# EAGLE library part ARDUINO-MINI-PRO (library custom)
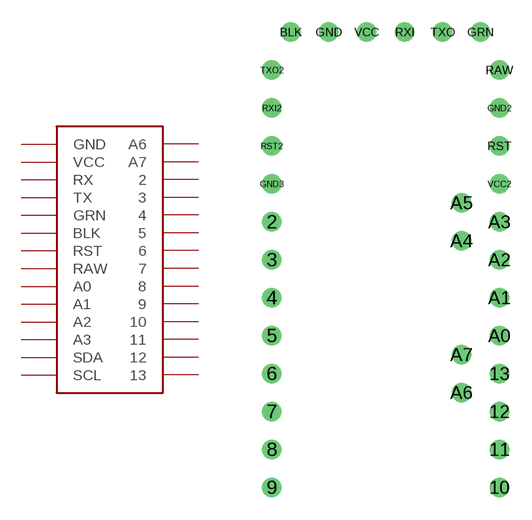
[diagram p10: symbol with the pads of ARDUINO-MINI-PRO; footprint ARDUINO-MINI-PRO]

Designator prefix -

## ARDUINO-MINI-PRO  [ARDUINO-MINI-PRO]
2  2
3  3
4  4
5  5
6  6
7  7
8  8
9  9
10  10
11  11
12  12
13  13
A0  A0
A1  A1
A2  A2
A3  A3
A4  SDA
A5  SCL
A6  A6
A7  A7
BLK  BLK
GND  GND
GRN  GRN
RAW  RAW
RST  RST
RXI  RX
TXO  TX
VCC  VCC

## Footprint ARDUINO-MINI-PRO (pad centres in mm)
drill 0.8: 2 -7.62,2.54; 3 -7.62,0; 4 -7.62,-2.54; 5 -7.62,-5.08; 6 -7.62,-7.62; 7 -7.62,-10.16; 8 -7.62,-12.7; 9 -7.62,-15.24; 10 7.62,-15.24; 11 7.62,-12.7; 12 7.62,-10.16; 13 7.62,-7.62; A0 7.62,-5.08; A1 7.62,-2.54; A2 7.62,0; A3 7.62,2.54; A4 5.08,1.27; A5 5.08,3.81; A6 5.08,-8.89; A7 5.08,-6.35; BLK -6.35,15.24; GND -3.81,15.24; GND2 7.62,10.16; GND3 -7.62,5.08; GRN 6.35,15.24; RAW 7.62,12.7; RST 7.62,7.62; RST2 -7.62,7.62; RXI 1.27,15.24; RXI2 -7.62,10.16; TXO 3.81,15.24; TXO2 -7.62,12.7; VCC -1.27,15.24; VCC2 7.62,5.08